# Altium integrated library LM324N(1).IntLib: 1 symbol
Pins are listed as number, name and electrical type; pins without a type are passive.

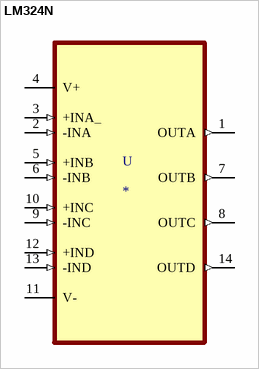
[diagram p0: symbol LM324N]

## LM324N
designator U
General Purpose Amplifier 4 Circuit 14-PDIP; MP: LM324N/NOPB; MF: Texas Instruments; SnapEDA_Link: https://www.snapeda.com/parts/LM324N/NOPB/Texas%20Instruments/view-part/18367/?ref=snap; Price: None; Package: DIP-14 Texas Instruments; Value: *; Availability: Unavailable
footprint DIP254P762X508-14
pins: 1 OUTA (out), 2 -INA (in), 3 +INA_ (in), 4 V+, 5 +INB (in), 6 -INB (in), 7 OUTB (out), 8 OUTC (out), 9 -INC (in), 10 +INC (in), 11 V-, 12 +IND (in), 13 -IND (in), 14 OUTD (out)